# Altium footprint library Wifi Relay V3.PcbLib: 8 footprints
Each footprint in its own frame and in the unit in brackets; x right, y up, seen from the top. Pads: shape width x height; smd on the part's side, far side on the other; paste and mask are expansions set on the pad; w line width, h text height; cw(c..) or ccw(c..) is an arc to the next point about the centre after c.
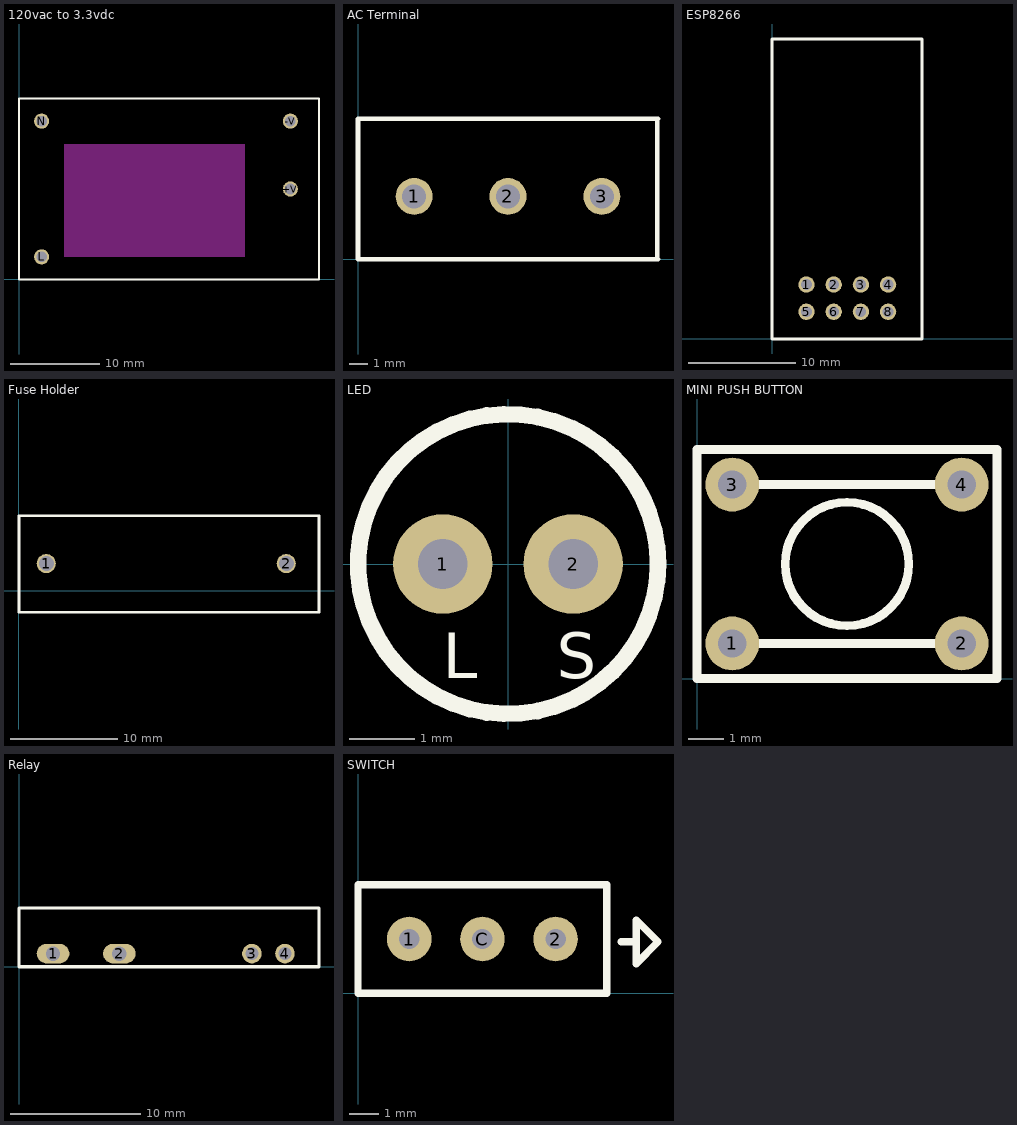
[diagram p0: the footprints below, top view; thin cyan lines are the x and y axes]

## 120vac to 3.3vdc [mm]
pads (4):
  round 1.7 hole 1.2: +V(30.48,10.16) -V(30.48,17.78) L(2.54,2.54) N(2.54,17.78)
Top Overlay:
  lines w0.254: 0,0 0,20.32 33.7,20.32 33.7,0 0,0
Keep-Out Layer:
  rectangle: 5.08,2.54 25.4,15.24

## AC Terminal [mm]
pads (3):
  round 2 hole 1.3: 1(3.04,3.4) 2(8.12,3.4) 3(13.2,3.4)
Top Overlay:
  lines w0.254: 16.2,0 16.2,7.6 ; 16.24,0 0,0 0,7.6 16.24,7.6

## ESP8266 [mil]
pads (8):
  round 60 hole 39.37: 1(126.57,200) 2(226.57,200) 3(326.57,200) 4(426.57,200) 5(126.57,100) 6(226.57,100) 7(326.57,100) 8(426.57,100)
Top Overlay:
  lines w10: 0,0 535.43,0 551.18,0 551.18,1102.36 0,1102.36 0,0

## Fuse Holder [mil] "5mm x 20mm"
pads (2):
  round 70 hole 55: 1(100,100) 2(980,100)
Top Overlay:
  lines w10: 0,-78.74 1100,-78.74 1100,275.59 0,275.59 0,-78.74

## LED [mil]
pads (2):
  round 60 hole 30: 1(-39.37,0) 2(39.37,0)
Top Overlay:
  circle w10: c0,0 r90.55
  text "S" at 29.53,-68.9 h27.56
  text "L" at -39.37,-68.9 h27.56

## MINI PUSH BUTTON [mm]
pads (4):
  round 1.524 hole 0.8: 1(1,1) 2(7.5,1) 3(1,5.5) 4(7.5,5.5)
Top Overlay:
  circle w0.254: c4.25,3.25 r1.75
  lines w0.254: 1,1 7.5,1 ; 1,5.5 7.5,5.5 ; 0,0 3.125,0 5.375,0 8.5,0 8.5,1 8.5,5.5 8.5,6.5 5.875,6.5 3.125,6.5 1.906,6.5 0.969,6.5 0,6.5 0,5.5 0,1 0,0

## Relay [mm]
pads (4):
  oval 2.5x1.5 hole 1.1: 1(2.61,1) 2(7.69,1)
  round 1.5 hole 1: 3(17.85,1) 4(20.39,1)
Top Overlay:
  lines w0.254: 0,0 23,0 23,4.5 0,4.5 0,0

## SWITCH [mm]
pads (3):
  round 1.524 hole 0.7: 1(1.75,1.85) 2(6.75,1.85) C(4.25,1.85)
Top Overlay:
  lines w0.254: 9,1.75 9.5,1.75 ; 9.5,1.75 9.5,2 9.5,2.5 10.25,1.75 9.5,1 9.5,1.75 ; 0,0 8.5,0 8.5,3.7 0,3.7 0,0